# EAGLE library part SUBMINI_6H17 (library TomW)
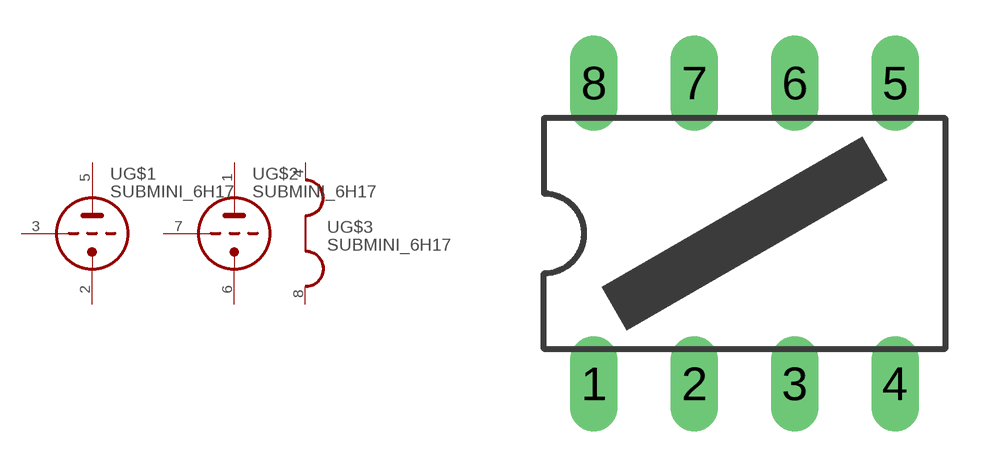
[diagram p10: symbol with the pads of A_SUBMINI_TUBE; footprint A_SUBMINI_TUBE]

Designator prefix -; gates G$1=TRIODE G$2=TRIODE G$3=HEATER_2

## SUBMINI_6H17  [A_SUBMINI_TUBE]
1  G$2:TA  pas
2  G$1:TK  pas
3  G$1:TG  pas
4  G$3:H1  pas
5  G$1:TA  pas
6  G$2:TK  pas
7  G$2:TG  pas
8  G$3:H3  pas

## Footprint A_SUBMINI_TUBE (pad centres in mm)
drill 0.7 long: 1 -3.81,-3.81; 2 -1.27,-3.81; 3 1.27,-3.81; 4 3.81,-3.81; 5 3.81,3.81; 6 1.27,3.81; 7 -1.27,3.81; 8 -3.81,3.81